# Altium schematic symbol library MMBT5401LT1G.SchLib: 1 symbol
Pins are listed as number, name and electrical type; pins without a type are passive.

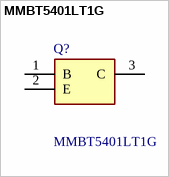
[diagram p0: symbol MMBT5401LT1G]

## MMBT5401LT1G
designator Q?
Manufacturer_Name: onsemi; Geometry.Height: 1.11mm; Manufacturer_Part_Number: MMBT5401LT1G; Mouser Part Number: 863-MMBT5401LT1G; Mouser Price/Stock: https://www.mouser.co.uk/ProductDetail/onsemi/MMBT5401LT1G?qs=R2UZ7gjkEjK19vIt05hkDw%3D%3D; Arrow Part Number: MMBT5401LT1G; Arrow Price/Stock: https://www.arrow.com/en/products/mmbt5401lt1g/on-semiconductor?region=nac; Description: *; Datasheet Link: http://www.onsemi.com/pub/Collateral/MMBT5401LT1-D.PDF
footprint SOT96P237X111-3N
pins: 1 B, 2 E, 3 C